# Altium footprint library commutateur.PcbLib: 1 footprints
Each footprint in its own frame and in the unit in brackets; x right, y up, seen from the top. Pads: shape width x height; smd on the part's side, far side on the other; paste and mask are expansions set on the pad; w line width, h text height; cw(c..) or ccw(c..) is an arc to the next point about the centre after c.
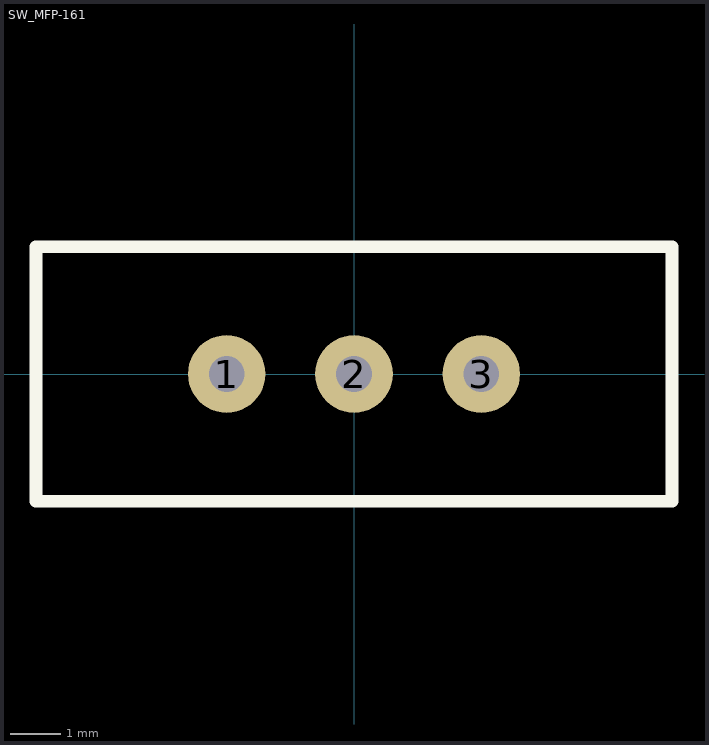
[diagram p0: the footprint, top view; thin cyan lines are the x and y axes]

## SW_MFP-161 [mil]
pads (3):
  round 60 hole 27.56: 1(-98.43,0) 2(0,0) 3(98.43,0)
Top Overlay:
  lines w10: -246.06,-98.43 -246.06,98.43 246.06,98.43 246.06,-98.43 -246.06,-98.43
3D body "commutateur.step": height 275.59, standoff -200.79, extent -228.35,-78.74 228.35,78.74